# Altium schematic symbol library US1G.SchLib: 1 symbol
Pins are listed as number, name and electrical type; pins without a type are passive.

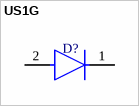
[diagram p0: symbol US1G]

## US1G
designator D?  (value not drawn)
footprint US1G_SMA
footprint DO-214AA
pins: 1 C, 2 A